# EAGLE library part MC33039DG (library On Semiconductor)
Closed Loop Brushless Motor Adapter
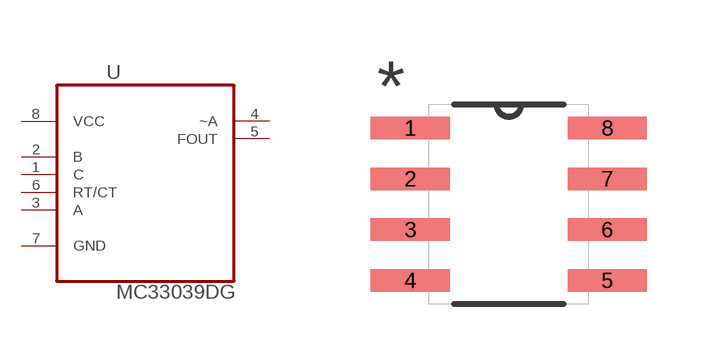
[diagram p320: symbol with the pads of SOIC127P600X175-8N; footprint SOIC127P600X175-8N]

Designator prefix U

## MC33039DG (MPN: MC33039DG; OC_FARNELL: 1211112; OC_NEWARK: 45J1154; PACKAGE: SOIC-8; SUPPLIER: Onsemiconductor)  [SOIC127P600X175-8N]
1  C  in
2  B  in
3  A  in
4  ~A  out
5  FOUT  out
6  RT/CT  in
7  GND  pas
8  VCC  pwr

## Footprint SOIC127P600X175-8N (pad centres in mm)
smd 1.981 x 0.559: 1 -2.464,1.905; 2 -2.464,0.635; 3 -2.464,-0.635; 4 -2.464,-1.905; 5 2.464,-1.905; 6 2.464,-0.635; 7 2.464,0.635; 8 2.464,1.905